# Altium footprint library USB_connectors.PcbLib: 6 footprints
Each footprint in its own frame and in the unit in brackets; x right, y up, seen from the top. Pads: shape width x height; smd on the part's side, far side on the other; paste and mask are expansions set on the pad; w line width, h text height; cw(c..) or ccw(c..) is an arc to the next point about the centre after c.
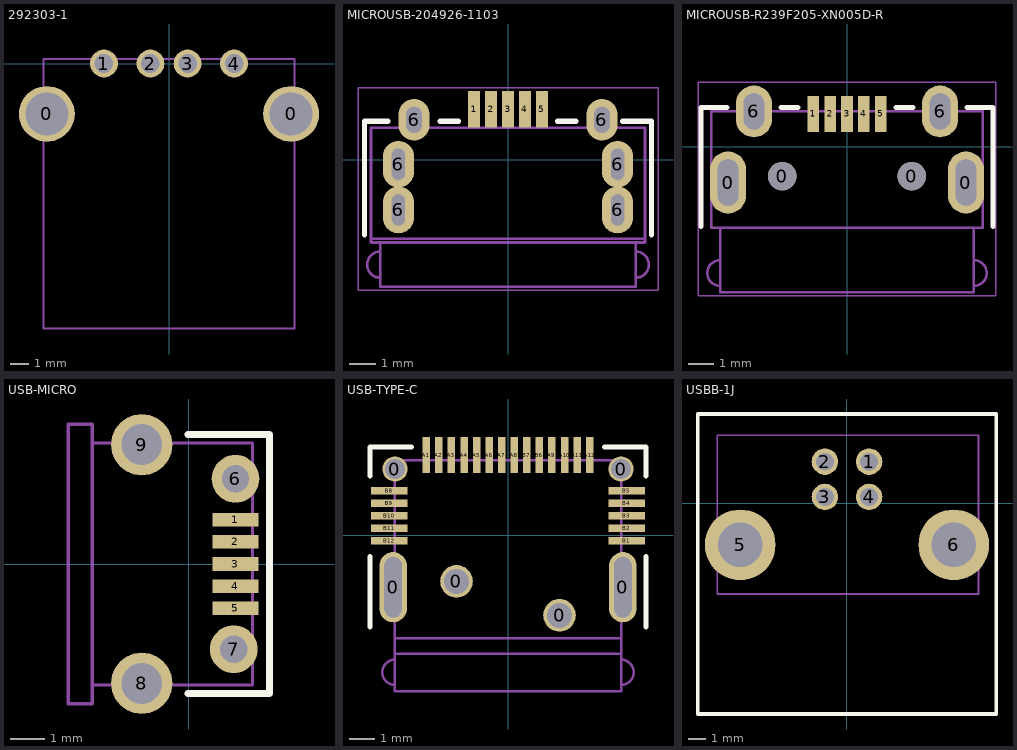
[diagram p0: the footprints below, top view; thin cyan lines are the x and y axes]

## 292303-1 [mm] "USB-A"
pads (6):
  round 3 hole 2.3: 0(-6.57,-2.71) 0(6.57,-2.71)
  round 1.5 hole 1 unplated: 1(-3.5,0) 2(-1,0) 3(1,0) 4(3.5,0)
Top Assembly:
  lines w0.1: -6.75,-14.25 6.75,-14.25 6.75,0.25 -6.75,0.25 -6.75,-14.25
  text ".Designator" at -4.998,-0.333 h1
Top Courtyard (Mech15):
  lines w0.05: -6.75,-14.25 6.75,-14.25 6.75,0.25 -6.75,0.25 -6.75,-14.25

## MICROUSB-204926-1103 [mm] "Molex Sealed USB"
pads (11):
  rect 0.45x1.4 smd: 1(-1.3,1.925) 2(-0.65,1.925) 3(0,1.925) 4(0.65,1.925) 5(1.3,1.925)
  oval 1.2x1.8 hole 0.5 slot 1.2 at 90 deg: 6(-4.2,-1.925) 6(-4.2,-0.175) 6(4.2,-1.925) 6(4.2,-0.175)
  oval 1.2x1.6 hole 0.6 slot 1 at 90 deg: 6(-3.6,1.525) 6(3.6,1.525)
Top Overlay:
  lines w0.2: -5.5,-2.875 -5.5,1.475 -4.6,1.475 ; -2.6,1.475 -1.9,1.475 ; 1.9,1.475 2.6,1.475 ; 4.4,1.475 5.5,1.475 5.5,-2.875
Top Assembly:
  lines w0.1: -5.25,-3.025 5.25,-3.025 ; -4.9,-4.525 cw(c-4.9,-4.025) -4.9,-3.525 ; -4.9,-3.175 -4.9,-4.875 4.9,-4.875 4.9,-3.175 ; 4.9,-4.525 ccw(c4.9,-4.025) 4.9,-3.525 ; -5.25,-3.175 -5.25,1.225 5.25,1.225 5.25,-3.175 -5.25,-3.175
  text ".Designator" at -4.998,-0.333 h1
Top Courtyard (Mech15):
  lines w0.05: -5.75,-5 -5.75,2.75 5.75,2.75 5.75,-5 -5.75,-5
3D body "2049261103.stp": height 3.95, standoff -1, extent -4.65,-4.825 4.65,2.175

## MICROUSB-R239F205-XN005D-R [mm] "Astron Sealed USB"
pads (11):
  oval 1.4x2.4 hole 0.8 slot 1.8 at 90 deg unplated: 0(-4.6,-1.375) 0(4.6,-1.375)
  round 1.1 hole 1.1 unplated: 0(-2.5,-1.125) 0(2.5,-1.125)
  rect 0.45x1.4 smd: 1(-1.3,1.275) 2(-0.65,1.275) 3(0,1.275) 4(0.65,1.275) 5(1.3,1.275)
  oval 1.4x2 hole 0.8 slot 1.4 at 90 deg unplated: 6(-3.6,1.375) 6(3.6,1.375)
Top Overlay:
  lines w0.2: -5.65,-3.075 -5.65,1.525 -4.65,1.525 ; -2.55,1.525 -1.9,1.525 ; 1.9,1.525 2.55,1.525 ; 4.65,1.525 5.65,1.525 5.65,-3.075
Top Assembly:
  lines w0.1: -4.9,-5.375 cw(c-4.9,-4.875) -4.9,-4.375 ; -4.9,-3.125 -4.9,-5.625 4.9,-5.625 4.9,-3.125 ; 4.9,-5.375 ccw(c4.9,-4.875) 4.9,-4.375 ; -5.25,-3.125 5.25,-3.125 5.25,1.375 -5.25,1.375 -5.25,-3.125
  text ".Designator" at -4.998,-0.333 h1
Top Courtyard (Mech15):
  lines w0.05: -5.75,-5.75 -5.75,2.5 5.75,2.5 5.75,-5.75 -5.75,-5.75
3D body "USB_разъем_R239F205-XN005D-R_(условно).STEP": height 5.48, standoff -1.5, extent -5.5,-5.65 5.5,1.35

## USB-MICRO [mm]
pads (9):
  rect 1.35x0.4 smd: 1(1.375,1.3) 2(1.375,0.65) 3(1.375,0) 4(1.375,-0.65) 5(1.375,-1.3)
  round 1.4 hole 0.8: 6(1.375,2.5) 7(1.325,-2.5)
  round 1.8 hole 1.2: 8(-1.375,-3.5) 9(-1.375,3.5)
Top Overlay:
  lines w0.2: -0.025,-3.8 2.375,-3.8 2.375,3.8 -0.025,3.8
Top Assembly:
  lines w0.1: -2.825,-3.55 1.875,-3.55 1.875,3.55 -2.825,3.55 ; -3.525,-4.1 -2.825,-4.1 -2.825,4.1 -3.525,4.1 -3.525,-4.1
  text ".Designator" at -4.998,-0.333 h1

## USB-TYPE-C [mm]
pads (30):
  oval 1.1x2.8 hole 0.7 slot 2.4 at 90 deg: 0(-4.57,-2.07) 0(4.57,-2.07)
  round 1 hole 0.8: 0(-4.5,2.63) 0(4.5,2.63)
  round 1.3 hole 1: 0(-2.05,-1.84) 0(2.05,-3.19)
  rect 0.3x1.45 smd: A1(-3.25,3.19) A2(-2.75,3.19) A3(-2.25,3.19) A4(-1.75,3.19) A5(-1.25,3.19) A6(-0.75,3.19) A7(-0.25,3.19) A8(0.25,3.19) A9(1.75,3.19) A10(2.25,3.19) A11(2.75,3.19) A12(3.25,3.19) B6(1.25,3.19) B7(0.75,3.19)
  rect 1.45x0.3 smd: B1(4.725,-0.23) B2(4.725,0.27) B3(4.725,0.77) B4(4.725,1.27) B5(4.725,1.77) B8(-4.725,1.77) B9(-4.725,1.27) B10(-4.725,0.77) B11(-4.725,0.27) B12(-4.725,-0.23)
Top Overlay:
  lines w0.2: -5.5,-3.65 -5.5,-0.85 ; -5.5,2.35 -5.5,3.5 -3.85,3.5 ; 3.85,3.5 5.5,3.5 5.5,2.35 ; 5.5,-3.65 5.5,-0.85
Keep-Out Layer:
  lines w0.1: -4.92,-2.945 ccw(c-4.57,-2.945) -4.22,-2.945 ; -4.92,-2.94 -4.92,-1.195 cw(c-4.57,-1.195) -4.22,-1.195 -4.22,-2.94 ; 4.22,-2.945 ccw(c4.57,-2.945) 4.92,-2.945 ; 4.22,-2.94 4.22,-1.195 cw(c4.57,-1.195) 4.92,-1.195 4.92,-2.94
Top Assembly:
  lines w0.1: -4.5,-5.96 cw(c-4.5,-5.46) -4.5,-4.96 ; -4.5,-4.71 4.5,-4.71 ; -4.5,-4.11 4.5,-4.11 ; 4.5,-5.96 ccw(c4.5,-5.46) 4.5,-4.96 ; -4.5,-6.21 -4.5,2.99 4.5,2.99 4.5,-6.21 -4.5,-6.21
  text ".Designator" at -4.998,-0.333 h1
3D body "24pin_WP_180509.STEP": height 4.04, standoff -1.51, extent -5.3,-6.19 5.308,3.29

## USBB-1J [mm]
height 11.2
pads (6):
  round 1.5 hole 1: 1(1.25,2.355) 2(-1.25,2.355) 3(-1.25,0.355) 4(1.25,0.355)
  round 4 hole 2.5: 5(-6.05,-2.355) 6(6.05,-2.355)
Top Overlay:
  lines w0.2: -8.45,-11.945 -8.45,5.055 8.45,5.055 8.45,-11.945 -8.45,-11.945
Top Assembly:
  lines w0.1: -7.349,-5.145 7.45,-5.145 7.45,3.855 -7.349,3.855 -7.349,-5.145
  text ".Designator" at -4.998,-0.333 h1
Top Courtyard (Mech15):
  lines w0.05: -8.45,-11.945 8.45,-11.945 8.45,5.055 -8.45,5.055 -8.45,-11.945
3D body "User Library-Samtec - USB-B-S-X-W-TH.STEP": height 11, standoff -3.64, extent -7.349,-12.645 7.447,3.855